# Altium schematic symbol library LT3045EMSE#PBF.SchLib: 1 symbol
Pins are listed as number, name and electrical type; pins without a type are passive.

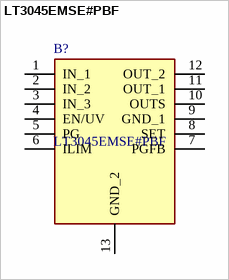
[diagram p0: symbol LT3045EMSE#PBF]

## LT3045EMSE#PBF
designator B?
12-LEAD PLASTIC MSOP; Manufacturer_Name: Analog Devices; Geometry.Height: 1.1mm; Mouser Part Number: 584-LT3045EMSE#PBF; Mouser Price/Stock: https://www.mouser.co.uk/ProductDetail/Analog-Devices/LT3045EMSEPBF?qs=oahfZPh6IALaLGJLx0PWbw%3D%3D; Manufacturer_Part_Number: LT3045EMSE#PBF; Datasheet Link: http://cds.linear.com/docs/en/datasheet/3045f.pdf
footprint SOP65P490X110-13N
pins: 1 IN_1, 2 IN_2, 3 IN_3, 4 EN/UV, 5 PG, 6 ILIM, 7 PGFB, 8 SET, 9 GND_1, 10 OUTS, 11 OUT_1, 12 OUT_2, 13 GND_2